# Altium schematic symbol library XS1-L2.SchLib: 1 symbol
Pins are listed as number, name and electrical type; pins without a type are passive.

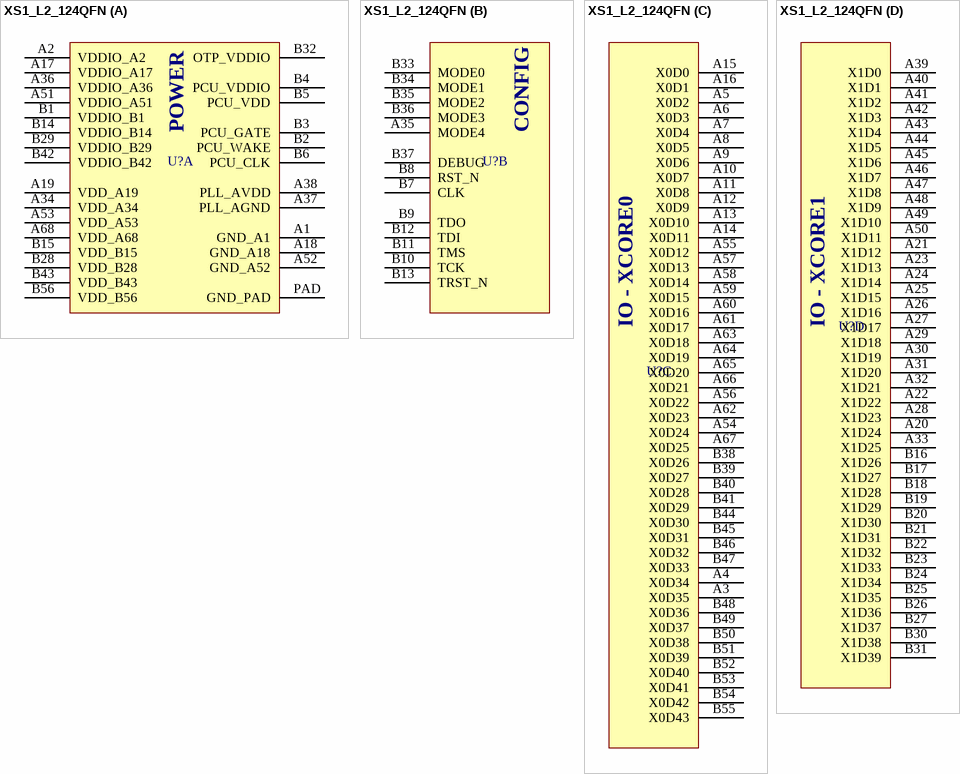
[diagram p0: symbol XS1_L2_124QFN]

## XS1_L2_124QFN
designator U?  (value not drawn)
Manufacturer: XMOS; Part Number: XS1-L02A-QF124-C4; Cost: *
footprint QFN-124
part A pins: A1 GND_A1, A2 VDDIO_A2 (power), A17 VDDIO_A17 (power), A18 GND_A18, A19 VDD_A19 (power), A34 VDD_A34 (power), A36 VDDIO_A36 (power), A37 PLL_AGND, A38 PLL_AVDD, A51 VDDIO_A51 (power), A52 GND_A52, A53 VDD_A53 (power), A68 VDD_A68 (power), B1 VDDIO_B1 (power), B2 PCU_WAKE, B3 PCU_GATE, B4 PCU_VDDIO, B5 PCU_VDD, B6 PCU_CLK, B14 VDDIO_B14 (power), B15 VDD_B15 (power), B28 VDD_B28 (power), B29 VDDIO_B29 (power), B32 OTP_VDDIO, B42 VDDIO_B42 (power), B43 VDD_B43 (power), B56 VDD_B56 (power), PAD GND_PAD
part B pins: A35 MODE4, B7 CLK, B8 RST_N, B9 TDO, B10 TCK, B11 TMS, B12 TDI, B13 TRST_N, B33 MODE0, B34 MODE1, B35 MODE2, B36 MODE3, B37 DEBUG
part C pins: A3 X0D35, A4 X0D34, A5 X0D2, A6 X0D3, A7 X0D4, A8 X0D5, A9 X0D6, A10 X0D7, A11 X0D8, A12 X0D9, A13 X0D10, A14 X0D11, A15 X0D0, A16 X0D1, A54 X0D24, A55 X0D12, A56 X0D22, A57 X0D13, A58 X0D14, A59 X0D15, A60 X0D16, A61 X0D17, A62 X0D23, A63 X0D18, A64 X0D19, A65 X0D20, A66 X0D21, A67 X0D25, B38 X0D26, B39 X0D27, B40 X0D28, B41 X0D29, B44 X0D30, B45 X0D31, B46 X0D32, B47 X0D33, B48 X0D36, B49 X0D37, B50 X0D38, B51 X0D39, B52 X0D40, B53 X0D41, B54 X0D42, B55 X0D43
part D pins: A20 X1D24, A21 X1D12, A22 X1D22, A23 X1D13, A24 X1D14, A25 X1D15, A26 X1D16, A27 X1D17, A28 X1D23, A29 X1D18, A30 X1D19, A31 X1D20, A32 X1D21, A33 X1D25, A39 X1D0, A40 X1D1, A41 X1D2, A42 X1D3, A43 X1D4, A44 X1D5, A45 X1D6, A46 X1D7, A47 X1D8, A48 X1D9, A49 X1D10, A50 X1D11, B16 X1D26, B17 X1D27, B18 X1D28, B19 X1D29, B20 X1D30, B21 X1D31, B22 X1D32, B23 X1D33, B24 X1D34, B25 X1D35, B26 X1D36, B27 X1D37, B30 X1D38, B31 X1D39
part A text: POWER
part B text: CONFIG
part C text: IO - XCORE0
part D text: IO - XCORE1